# EAGLE library part TSW-S-48 (library con-samtec-tsw)
HEADER
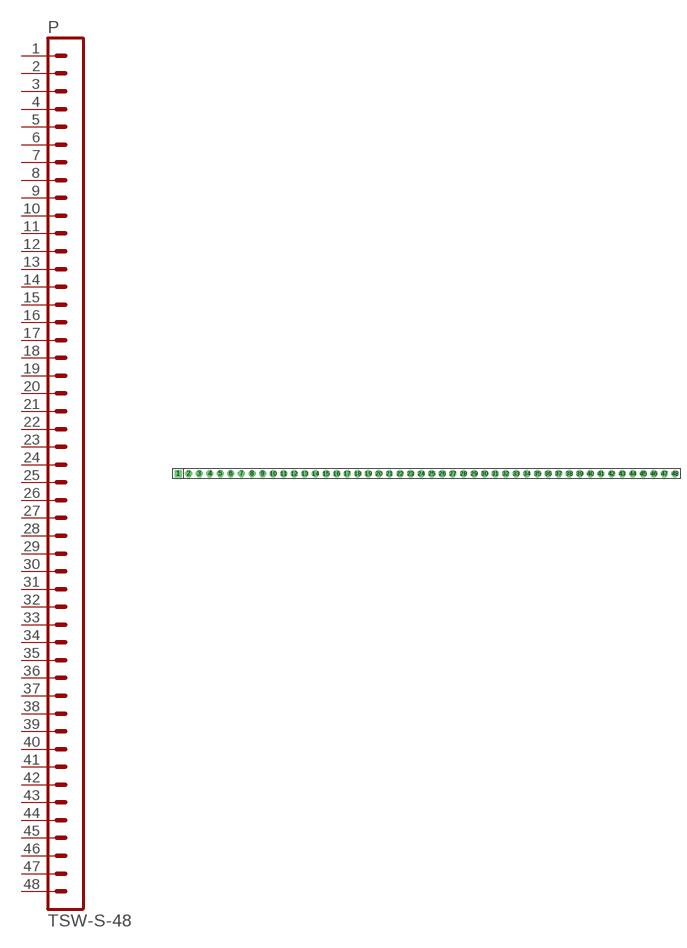
[diagram p42: symbol with the pads of TSW-S-48; footprint TSW-S-48]

Designator prefix P

## TSW-S-48  [TSW-S-48]
1  1  pas
2  2  pas
3  3  pas
4  4  pas
5  5  pas
6  6  pas
7  7  pas
8  8  pas
9  9  pas
10  10  pas
11  11  pas
12  12  pas
13  13  pas
14  14  pas
15  15  pas
16  16  pas
17  17  pas
18  18  pas
19  19  pas
20  20  pas
21  21  pas
22  22  pas
23  23  pas
24  24  pas
25  25  pas
26  26  pas
27  27  pas
28  28  pas
29  29  pas
30  30  pas
31  31  pas
32  32  pas
33  33  pas
34  34  pas
35  35  pas
36  36  pas
37  37  pas
38  38  pas
39  39  pas
40  40  pas
41  41  pas
42  42  pas
43  43  pas
44  44  pas
45  45  pas
46  46  pas
47  47  pas
48  48  pas

## Footprint TSW-S-48 (pad centres in mm)
HEADER
drill 0.914 pad 1.676 square: 1 -59.69,0
drill 0.914 pad 1.676 octagon: 2 -57.15,0; 3 -54.61,0; 4 -52.07,0; 5 -49.53,0; 6 -46.99,0; 7 -44.45,0; 8 -41.91,0; 9 -39.37,0; 10 -36.83,0; 11 -34.29,0; 12 -31.75,0; 13 -29.21,0; 14 -26.67,0; 15 -24.13,0; 16 -21.59,0; 17 -19.05,0; 18 -16.51,0; 19 -13.97,0; 20 -11.43,0; 21 -8.89,0; 22 -6.35,0; 23 -3.81,0; 24 -1.27,0; 25 1.27,0; 26 3.81,0; 27 6.35,0; 28 8.89,0; 29 11.43,0; 30 13.97,0; 31 16.51,0; 32 19.05,0; 33 21.59,0; 34 24.13,0; 35 26.67,0; 36 29.21,0; 37 31.75,0; 38 34.29,0; 39 36.83,0; 40 39.37,0; 41 41.91,0; 42 44.45,0; 43 46.99,0; 44 49.53,0; 45 52.07,0; 46 54.61,0; 47 57.15,0; 48 59.69,0